# EAGLE library part SG3525 (library sg3525)
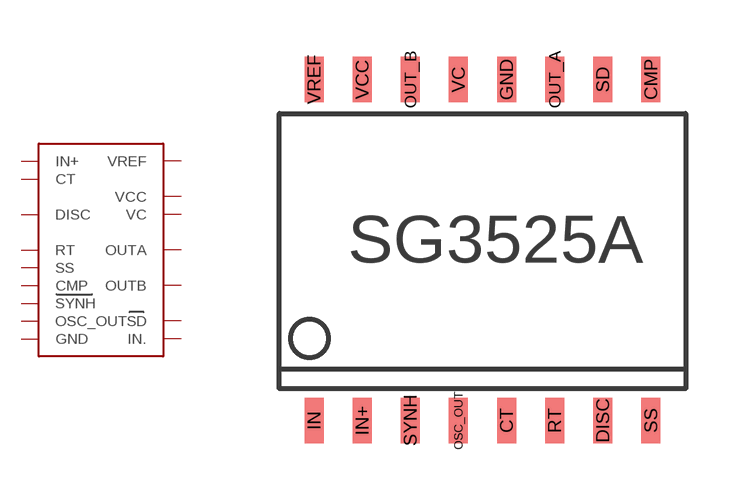
[diagram p0: symbol with the pads of SOIC16L; footprint SOIC16L]

Designator prefix -

## SG3525  [SOIC16L]
CMP  CMP
CT  CT
DISC  DISC
GND  GND
IN  IN.
IN+  IN+
OSC_OUT  OSC_OUT
OUT_A  OUTA
OUT_B  OUTB
RT  RT
SD  SD
SS  SS
SYNH  SYNH
VC  VC
VCC  VCC
VREF  VREF

## Footprint SOIC16L (pad centres in mm)
smd 0.5 x 1.2: CMP 5.08,4.562; CT 1.27,-4.445; DISC 3.81,-4.445; GND 1.27,4.562; IN -3.81,-4.445; IN+ -2.54,-4.445; OSC_OUT 0,-4.445; OUT_A 2.54,4.562; OUT_B -1.27,4.562; RT 2.54,-4.445; SD 3.81,4.562; SS 5.08,-4.445; SYNH -1.27,-4.445; VC 0,4.562; VCC -2.54,4.562; VREF -3.81,4.562